# Altium footprint library ADXL.PcbLib: 1 footprints
Each footprint in its own frame and in the unit in brackets; x right, y up, seen from the top. Pads: shape width x height; smd on the part's side, far side on the other; paste and mask are expansions set on the pad; w line width, h text height; cw(c..) or ccw(c..) is an arc to the next point about the centre after c.
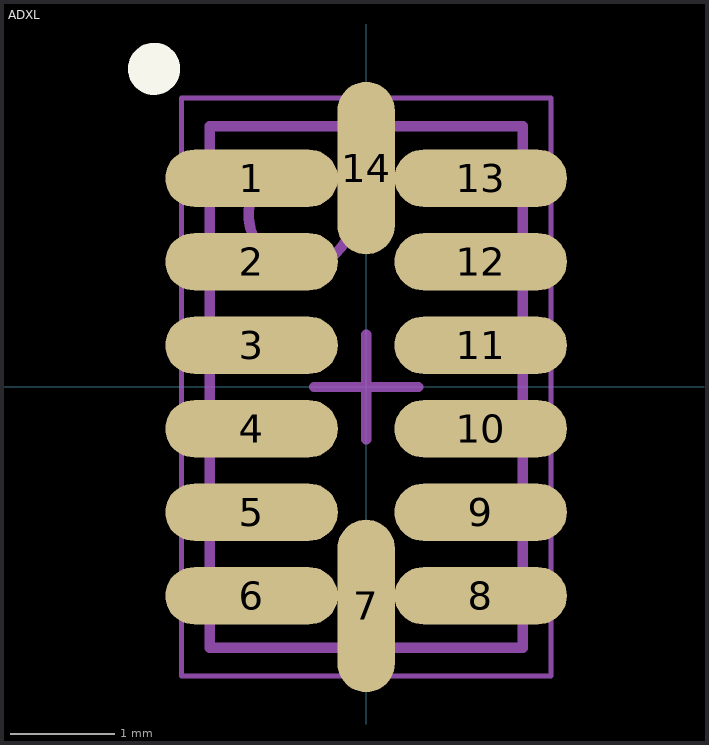
[diagram p0: the footprint, top view; thin cyan lines are the x and y axes]

## ADXL [mm] "QFN, 14-Leads, Body 5x3mm, Pitch 0.8mm"
height 1
pads (14):
  oval 1.653x0.55 smd: 1(-1.098,2) 2(-1.098,1.2) 3(-1.098,0.4) 4(-1.098,-0.4) 5(-1.098,-1.2) 6(-1.098,-2) 8(1.097,-2) 9(1.097,-1.2) 10(1.097,-0.4) 11(1.097,0.4) 12(1.097,1.2) 13(1.097,2)
  oval 0.55x1.653 smd: 7(0,-2.097) 14(0,2.098)
Top Overlay:
  circle w0.25: c-2.032,3.048 r0.125
Mechanical 13:
  circle w0.1: c-0.627,1.651 r0.5
  lines w0.1: -1.5,-2.5 -1.5,2.5 1.5,2.5 1.5,-2.5 -1.5,-2.5
Mechanical 15:
  lines w0.05: -1.77,-2.77 -1.77,2.77 1.77,2.77 1.77,-2.77 -1.77,-2.77
  lines w0.1: -0.5,0 0.5,0 ; 0,-0.5 0,0.5
3D body: height 1, standoff 0, extent -1.5,-2.5 1.5,2.5